# Altium footprint library 340102901B15SFR136.PcbLib: 1 footprints
Each footprint in its own frame and in the unit in brackets; x right, y up, seen from the top. Pads: shape width x height; smd on the part's side, far side on the other; paste and mask are expansions set on the pad; w line width, h text height; cw(c..) or ccw(c..) is an arc to the next point about the centre after c.
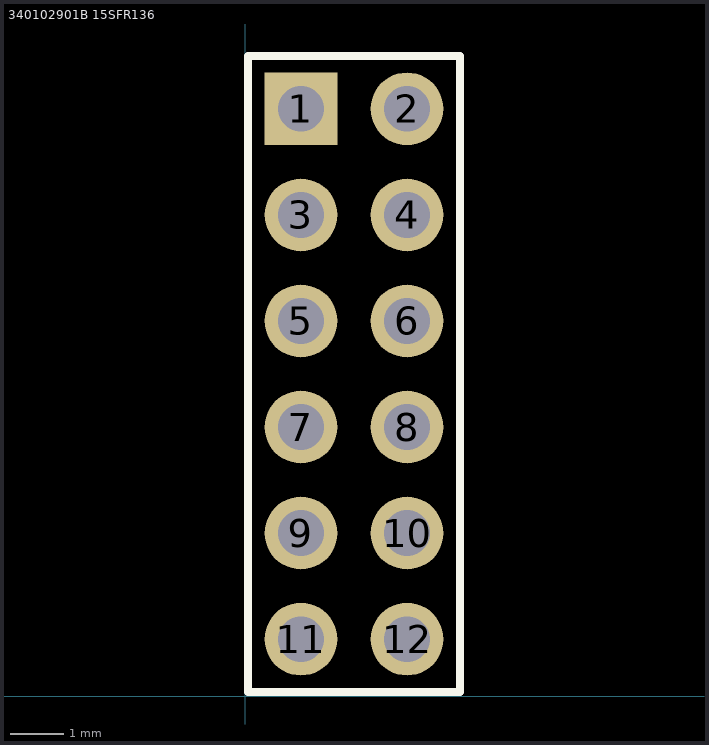
[diagram p0: the footprint, top view; thin cyan lines are the x and y axes]

## 340102901B 15SFR136 [mil]
pads (12):
  rect 54x54 hole 34: 1(41.42,435.91)
  round 54 hole 34: 2(120.16,435.91) 3(41.42,357.17) 4(120.16,357.17) 5(41.42,278.43) 6(120.16,278.43) 7(41.42,199.69) 8(120.16,199.69) 9(41.42,120.94) 10(120.16,120.94) 11(41.42,42.2) 12(120.16,42.2)
Top Overlay:
  lines w5.91: 2.05,2.83 159.53,2.83 159.53,475.28 2.05,475.28 2.05,2.83
3D body "C115366_9008C_3.sldprt": height 384.06, standoff -151.38, extent 197.32,198.27 839.84,1731.74
3D body "PLD2-12.STEP": height 236.22, standoff -106.3, extent 2.05,6.78 159.53,471.34